# EAGLE library part LSM9DS1 (library LSM)
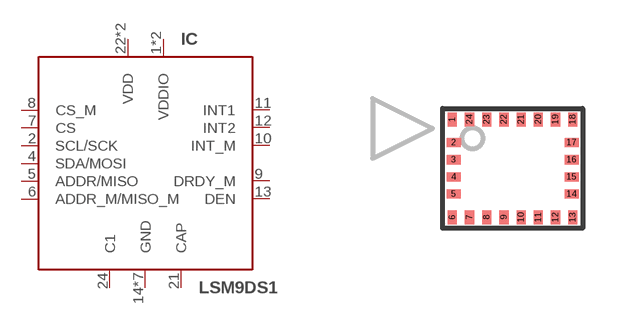
[diagram p0: symbol with the pads of LGA24; footprint LGA24]

Designator prefix IC

## LSM9DS1 (MF: ST; MPN: LSM9DS1)  [LGA24]
1  VDDIO  pwr
2  SCL/SCK  in
3  VDDIO  pwr
4  SDA/MOSI
5  ADDR/MISO
6  ADDR_M/MISO_M
7  CS  in
8  CS_M
9  DRDY_M  out
10  INT_M  out
11  INT1  out
12  INT2  out
13  DEN  out
14  GND  pwr
15  GND  pwr
16  GND  pwr
17  GND  pwr
18  GND  pwr
19  GND  pwr
20  GND  pwr
21  CAP
22  VDD  pwr
23  VDD  pwr
24  C1

## Footprint LGA24 (pad centres in mm)
smd 0.23 x 0.35: 1 -1.505,1.225; 6 -1.505,-1.225; 7 -1.075,-1.225; 8 -0.645,-1.225; 9 -0.215,-1.225; 10 0.215,-1.225; 11 0.645,-1.225; 12 1.075,-1.225; 13 1.505,-1.225; 18 1.505,1.225; 19 1.075,1.225; 20 0.645,1.225; 21 0.215,1.225; 22 -0.215,1.225; 23 -0.645,1.225; 24 -1.075,1.225
smd 0.35 x 0.23: 2 -1.475,0.645; 3 -1.475,0.215; 4 -1.475,-0.215; 5 -1.475,-0.645; 14 1.475,-0.645; 15 1.475,-0.215; 16 1.475,0.215; 17 1.475,0.645